# Altium footprint library Varistor.PcbLib: 2 footprints
Each footprint in its own frame and in the unit in brackets; x right, y up, seen from the top. Pads: shape width x height; smd on the part's side, far side on the other; paste and mask are expansions set on the pad; w line width, h text height; cw(c..) or ccw(c..) is an arc to the next point about the centre after c.
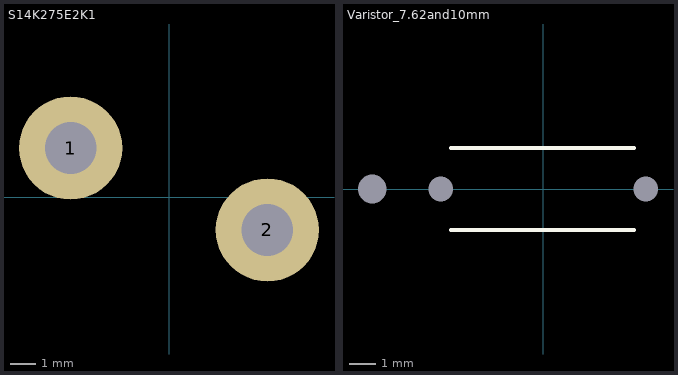
[diagram p0: the footprints below, top view; thin cyan lines are the x and y axes]

## S14K275E2K1 [mm]
pads (2):
  round 4 hole 2: 1(-3.81,1.905) 2(3.81,-1.27)
3D body "User Library-VARISTOR 387V 6KA DISC 14MM.step": height 23, standoff -20, extent -8,-2.54 8,2.96

## Varistor_7.62and10mm [mil] "Capacitor, Ceramic, Thru-Hole, Dipped Radial; Body 6.8 x 3 mm (WxT) Pin Spacing 7.62 mm (typ)"
height 236.22
pads (3):
  round 0 / inner round 0 / far side round 100 hole 42 unplated: 1(-250,0)
  round 0 / inner round 0 / far side oval 100x85 hole 36 unplated: 1(-150,0) 2(150,0)
Top Overlay:
  lines w6: -135,-60 132.72,-60 ; -135,60 132.72,60
3D body "MOV-10N331k_V.STEP": height 472.44, standoff -98.43, extent -216.47,-69.98 216.44,68.36